# Altium schematic symbol library HW_HOLLAND_NCDM_MONITOR_R1.SchLib: 617 symbols (part 7 of 7)
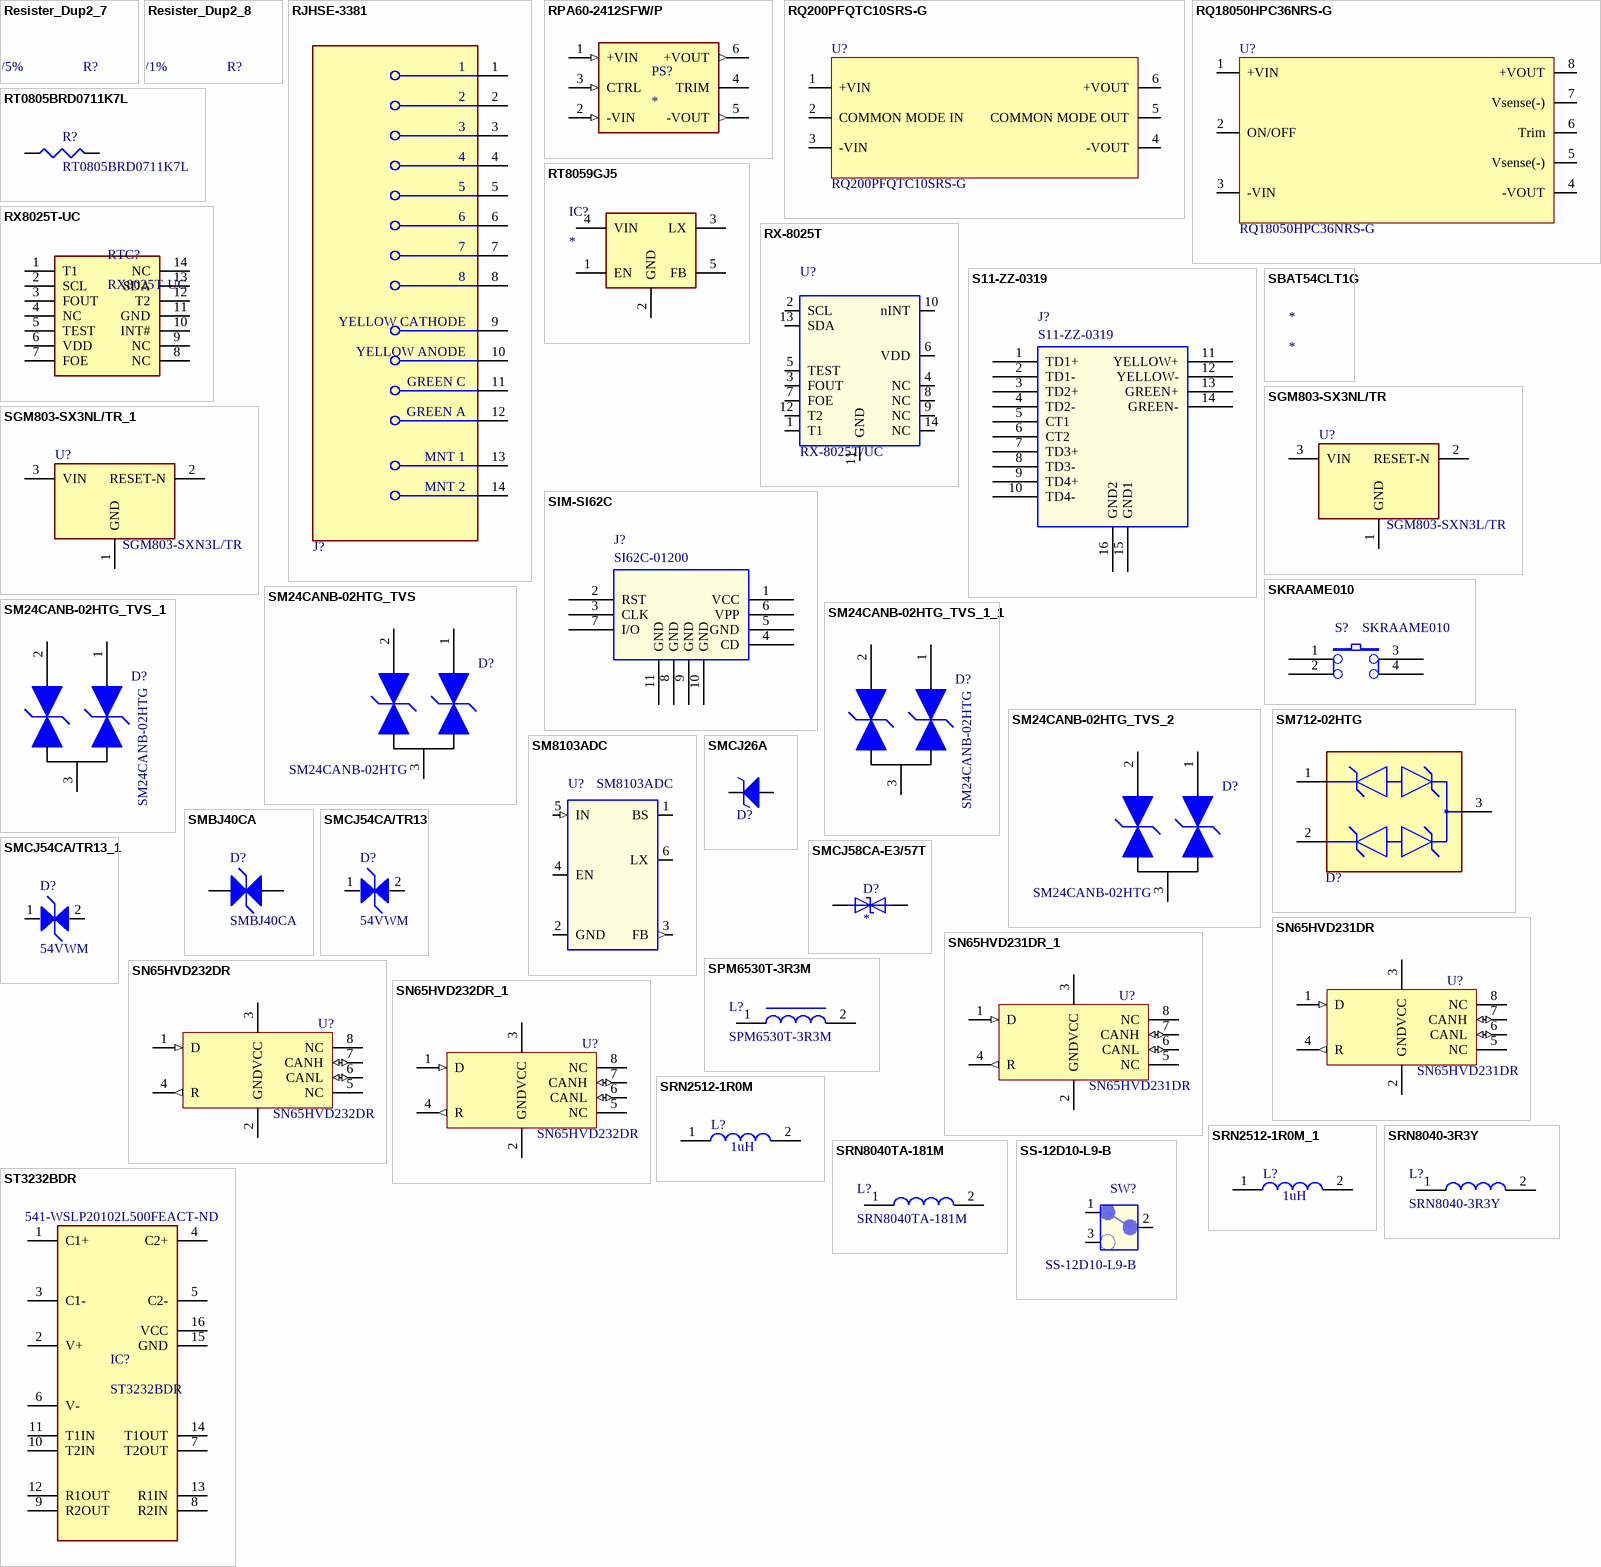
[diagram p25: symbols Resister_Dup2_7 to ST3232BDR]

## SMCJ58CA-E3/57T
designator D?
TransZorb 1500 W 58 V 93.6 Vcl Bi-Directional SMT TVS Diode - DO-214AB; Manufacturer: Vishay Semiconductors; Manufacturer Part Number: SMCJ58CA-E3/57T; Supplier 1: Digikey; RoHS: Yes; Category: TVS Diodes; Stock 1: 1611; Pricing 1: 1=0.64, 10=0.545, 100=0.3792 (USD); ComponentLink1URL: https://datasheet.ciiva.com/4247/smcj50a-4247736.pdf?src-supplier=Arrow+Electronics; ComponentLink1Description: https://datasheet.ciiva.com/4247/smcj50a-4247736.pdf?src-supplier=Arrow+Electronics; ComponentLink2URL: https://datasheet.ciiva.com/340/smcj50a-340997.pdf?src-supplier=Digikey; ComponentLink2Description: https://datasheet.ciiva.com/340/smcj50a-340997.pdf?src-supplier=Digikey; ComponentLink3URL: https://datasheet.ciiva.com/340/smcj50a-340998.pdf?src-supplier=Digikey; ComponentLink3Description: https://datasheet.ciiva.com/340/smcj50a-340998.pdf?src-supplier=Digikey; ComponentLink4URL: https://datasheet.ciiva.com/340/smcj50a-340999.pdf?src-supplier=Digikey; ComponentLink4Description: https://datasheet.ciiva.com/340/smcj50a-340999.pdf?src-supplier=Digikey; ComponentLink5URL: https://datasheet.ciiva.com/4508/smcj50a-241829-4508847.pdf?src-supplier=Mouser; ComponentLink5Description: https://datasheet.ciiva.com/4508/smcj50a-241829-4508847.pdf?src-supplier=Mouser; Supplier Part Number 1: SMCJ58CA-E3/57TGICT-ND
footprint DIOM7959X262N
pins: 1, 2

## SN65HVD231DR
designator U?, comment P/N: SN65HVD231DR  (hidden comment: IC TRANSCEIVER HALF 1/1 8SOIC)
1/1 Transceiver Half CANbus 8-SOIC; Order Code: DIGI : 296-26343-2-ND; Value: CAN; LCSC Manufacturer Part Number: SN65HVD231DR; LCSC Part Number: C129257
footprint SOIC8 (8-SOIC (0.154", 3.90mm Width))
pins: 1 D (in), 2 GND, 3 VCC, 4 R (out), 5 NC, 6 CANL (io), 7 CANH (io), 8 NC

## SN65HVD231DR_1
designator U?, comment P/N: SN65HVD231DR  (hidden comment: IC TRANSCEIVER HALF 1/1 8SOIC)
1/1 Transceiver Half CANbus 8-SOIC; Order Code: DIGI : 296-26343-2-ND; Value: CAN; LCSC Manufacturer Part Number: SN65HVD231DR; LCSC Part Number: C129257
footprint SOIC8 (8-SOIC (0.154", 3.90mm Width))
pins: 1 D (in), 2 GND, 3 VCC, 4 R (out), 5 NC, 6 CANL (io), 7 CANH (io), 8 NC

## SN65HVD232DR
designator U?
1Mbps Transceiver 3V~3.6V SOIC-8 CAN ICs ROHS; Manufacturer Part Number: SN65HVD232DR; LCSC Part Number: C30530
footprint SOIC8 (8-SOIC (0.154", 3.90mm Width))
pins: 1 D (in), 2 GND (power), 3 VCC (power), 4 R (out), 5 NC, 6 CANL (io), 7 CANH (io), 8 NC

## SN65HVD232DR_1
designator U?, comment SN65HVD232DR
1Mbps Transceiver 3V~3.6V SOIC-8 CAN ICs ROHS; Manufacturer Part Number: SN65HVD232DR; LCSC Part Number: C30530
footprint SOIC8 (8-SOIC (0.154", 3.90mm Width))
pins: 1 D (in), 2 GND (power), 3 VCC (power), 4 R (out), 5 NC, 6 CANL (io), 7 CANH (io), 8 NC

## SPM6530T-3R3M
designator L?
Inductor (FeSi Core); Manufacturer_Name: TDK; Datasheet Link: https://product.tdk.com/system/files/dam/doc/product/inductor/inductor/smd/catalog/inductor_commercial_power_spm6530_en.pdf; Manufacturer_Part_Number: SPM6530T-3R3M; Mouser Part Number: 810-SPM6530T-3R3M; Mouser Price/Stock: https://www.mouser.co.uk/ProductDetail/TDK/SPM6530T-3R3M?qs=chjFIDm9dbrWf%2F%2FLMCt7KA%3D%3D; Arrow Part Number: SPM6530T-3R3M; Arrow Price/Stock: https://www.arrow.com/en/products/spm6530t-3r3m/tdk?utm_currency=USD&region=nac
footprint SPM6530
pins: 1, 2

## SRN2512-1R0M
designator L?, comment value 1uH  (hidden comment: FIXED IND 1UH 3.5A 57 MOHM SMD)
1 µH Semi-Shielded Drum Core, Wirewound Inductor 3.5 A 57mOhm Max 1008 (2520 Metric); Manufacturer Part Number: SRN2512-1R0M; Order Code: Digi: SRN2512-1R0MTR-ND; LCSC Manufacturer Part Number: SRN2512-1R0M; LCSC Part Number: C2041561
footprint SRN25121R0M
pins: 1, 2

## SRN2512-1R0M_1
designator L?, comment value 1uH  (hidden comment: FIXED IND 1UH 3.5A 57 MOHM SMD)
1 µH Semi-Shielded Drum Core, Wirewound Inductor 3.5 A 57mOhm Max 1008 (2520 Metric); Manufacturer Part Number: SRN2512-1R0M; Order Code: Digi: SRN2512-1R0MTR-ND; LCSC Manufacturer Part Number: SRN2512-1R0M; LCSC Part Number: C2041561
footprint SRN25121R0M
pins: 1, 2

## SRN8040-3R3Y
designator L?
Inductor; Manufacturer_Name: Bourns; Datasheet Link: http://www.bourns.com/data/global/pdfs/SRN8040.pdf; Manufacturer_Part_Number: SRN8040-3R3Y; Mouser Part Number: 652-SRN8040-3R3Y; Mouser Price/Stock: https://www.mouser.co.uk/ProductDetail/Bourns/SRN8040-3R3Y?qs=opBjA1TV9010KZW9Pid7mg%3D%3D; Arrow Part Number: SRN8040-3R3Y; Arrow Price/Stock: https://www.arrow.com/en/products/srn8040-3r3y/bourns?region=nac
footprint SRN8040-3R3Y
pins: 1, 2

## SRN8040TA-181M
designator L?
FIXED IND 180UH 910MA 490MOHM SM; Manufacturer_Name: Bourns; Datasheet Link: http://www.bourns.com/docs/Product-Datasheets/SRN8040TA.pdf; Height: 4.5mm; Manufacturer_Part_Number: SRN8040TA-181M; Mouser Part Number: 652-SRN8040TA-181M; Mouser Price/Stock: https://www.mouser.co.uk/ProductDetail/Bourns/SRN8040TA-181M?qs=Vt59ZOdFuWYBehGVtqRu4w%3D%3D; Arrow Part Number: SRN8040TA-181M; Arrow Price/Stock: https://www.arrow.com/en/products/srn8040ta-181m/bourns?region=nac
footprint INDPM8080X450N
pins: 1, 2

## SS-12D10-L9-B
designator SW?
slide switch,5A current,vertical; Manufacturer: XKB; Myir P/N: 21203.00010; PCB Footprint: SW-SS-12D10-L9-B; Part Type: Switch; Manufacturer P/N: SS-12D10-L9-B; Reserve Value: SS-12D10-L9-B; Datasheet: SS-12D10-XX-X.pdf
footprint sk_12f14
footprint SW-SS-12D10-L9-B
pins: 1, 2, 3

## ST3232BDR
designator IC?  Supplier Part Number 2: 541-WSLP20102L500FEACT-ND
CURRENT SENSE, RESISTOR, WSLP2010.00251%EAe3 | Vishay Dale WSLP20102L500FEA; Manufacturer: STMicroelectronics; Supplier 1: Digikey; Manufacturer Part Number: ST3232BDR; RoHS: Yes; Category: Interface ICs; Stock 1: 10000; Pricing 1: 2500=0.84878, 5000=0.81734, 12500=0.78591 (USD); ComponentLink1URL: https://datasheet.ciiva.com/5825/1766333-5825810.pdf?src-supplier=Farnell; ComponentLink1Description: https://datasheet.ciiva.com/5825/1766333-5825810.pdf?src-supplier=Farnell; ComponentLink2URL: https://datasheet.ciiva.com/16391/st3232bdr-16391763.pdf?src-supplier=Future+Electronics; ComponentLink2Description: https://datasheet.ciiva.com/16391/st3232bdr-16391763.pdf?src-supplier=Future+Electronics; ComponentLink3URL: https://datasheet.ciiva.com/1701/cd00002253-1701454.pdf?src-supplier=Digikey; ComponentLink3Description: https://datasheet.ciiva.com/1701/cd00002253-1701454.pdf?src-supplier=Digikey; ComponentLink4URL: https://datasheet.ciiva.com/1701/cd00002253-1701455.pdf?src-supplier=Digikey; ComponentLink4Description: https://datasheet.ciiva.com/1701/cd00002253-1701455.pdf?src-supplier=Digikey; ComponentLink5URL: https://datasheet.ciiva.com/1701/cd00002253-1701456.pdf?src-supplier=Digikey; ComponentLink5Description: https://datasheet.ciiva.com/1701/cd00002253-1701456.pdf?src-supplier=Digikey; Supplier Part Number 1: 497-6533-2-ND; Supplier 2: Digikey; Stock 2: 33384; Pricing 2: 1=0.82, 10=0.65, 25=0.5872, 50=0.5284, 100=0.4364, 250=0.41096, 500=0.33268, 1000=0.26907 (USD); RoHS Compliant: Yes
footprint SOIC127P600X175-16N - duplicate
pins: 1 C1+, 2 V+, 3 C1-, 4 C2+, 5 C2-, 6 V-, 7 T2OUT, 8 R2IN, 9 R2OUT, 10 T2IN, 11 T1IN, 12 R1OUT, 13 R1IN, 14 T1OUT, 15 GND, 16 VCC

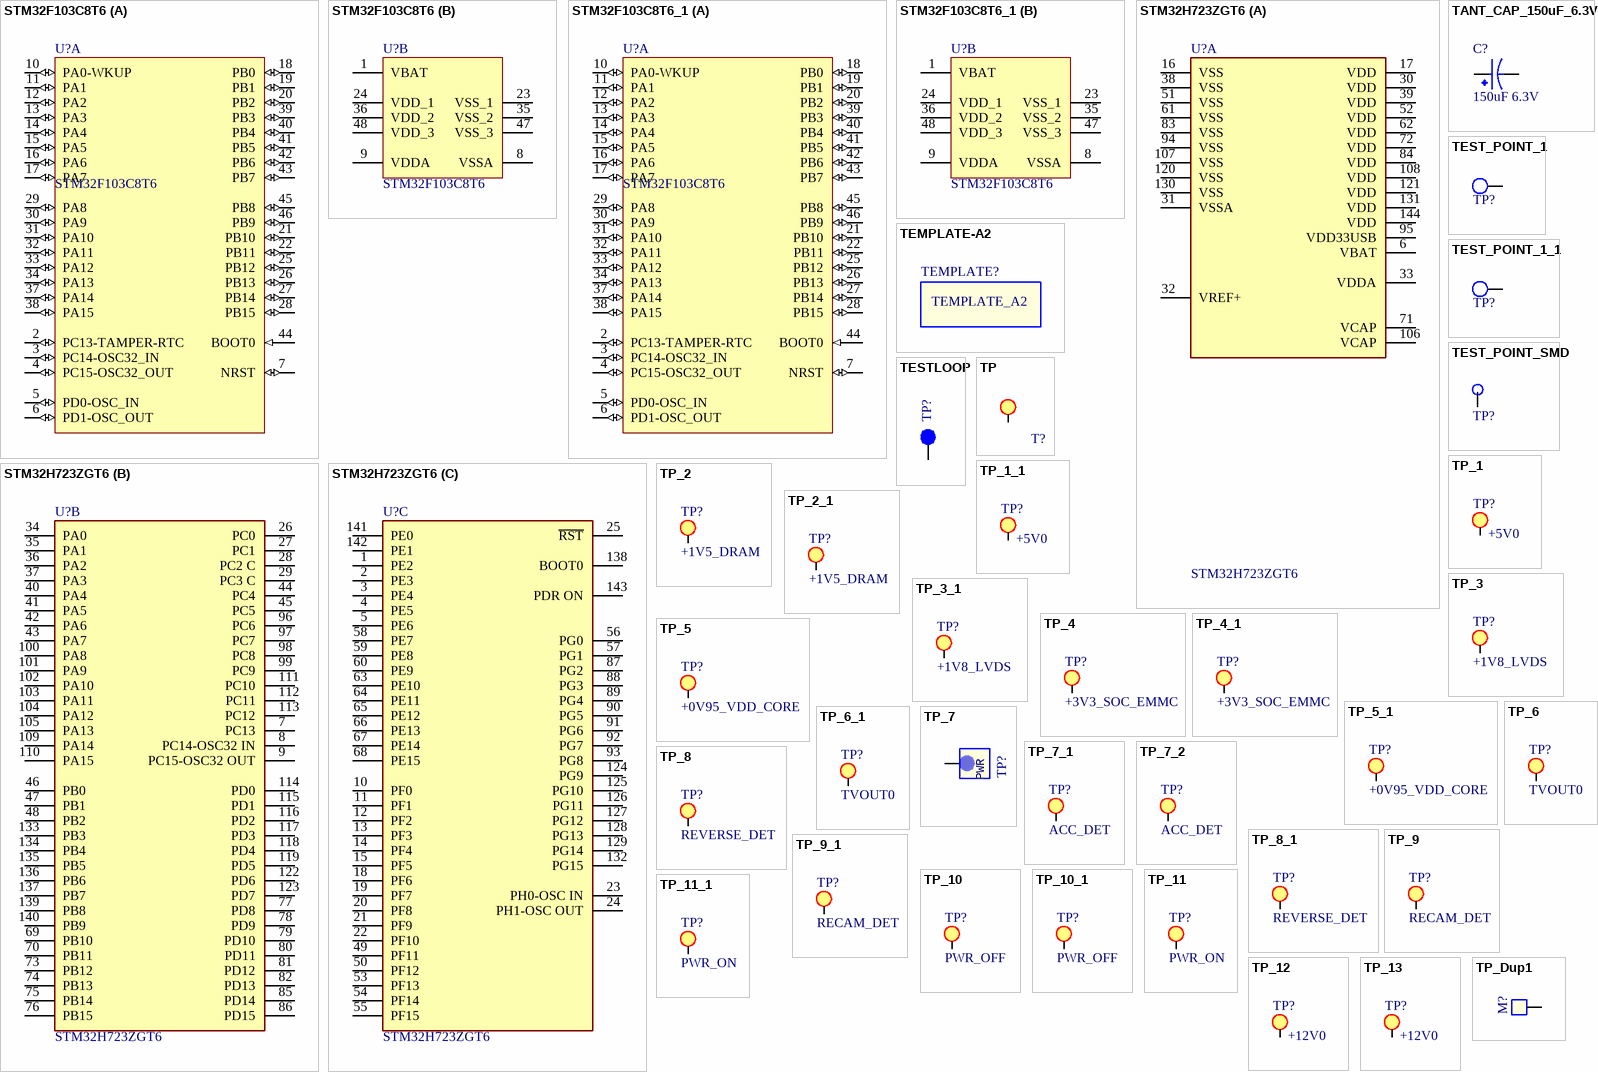
[diagram p17: symbols STM32F103C8T6 to TP_Dup1]

## STM32F103C8T6
designator U?
ARM Cortex-M3 32-bit MCU, 64 KB Flash, 20 KB Internal RAM, 37 I/Os, 48-pin LQFP, -40 to 85 degC, Tray; Operating Frequency(F) (Processor speed) (MHz): 72; Supply Voltage(Vcc) min (V): 2; FLASH Size (Prog) (kB): 64; Internal RAM Size (kB): 20; I/Os (High Current): 37; A/D Converter: 2x12-bit (10 Channel); Core: ARM Cortex-M3; ComponentLink2Description: Datasheet; ComponentLink3Description: Package Specification; Mounting Technology: Surface Mount; ComponentLink3URL: http://www.st.com/st-web-ui/static/active/en/resource/technical/document/datasheet/DM00058181.pdf; DatasheetVersion: Rev. 16; ComponentLink1URL: http://www.st.com/web/en/home.html; ComponentLink1Description: Manufacturer URL; Manufacturer Part Number: STM32F103C8T6; Packing: Tray; PackageVersion: Rev. 6, 06/2013; PackageReference: LQFP48; PackageDescription: 48-Pin Low Profile Quad Flat Package, 7 x 7 mm Body, 0.5 mm Pitch; ComponentLink2URL: http://www.st.com/st-web-ui/static/active/en/resource/technical/document/datasheet/CD00161566.pdf; LCSC Part Number: C8734; LCSC Manufacturer Part Number: STM32F103C8T6
footprint STM-LQFP48_M
footprint STM-LQFP48_L
footprint STM-LQFP48_N
part A pins: 2 PC13-TAMPER-RTC (io) "PC13-TAMPER-RTC/PC13/TAMPER-RTC", 3 PC14-OSC32_IN (io) "PC14-OSC32_IN/PC14/OSC32_IN", 4 PC15-OSC32_OUT (io) "PC15-OSC32_OUT/PC15/OSC32_OUT", 5 PD0-OSC_IN (io) "PD0/OSC_IN", 6 PD1-OSC_OUT (io) "PD1/OSC_OUT", 7 NRST (io), 10 PA0-WKUP (io) "PA0-WKUP/PA0/WKUP/USART2_CTS/ADC12_IN0/TIM2_CH1_ETR", 11 PA1 (io) "PA1/USART2_RTS/ADC12_IN1/TIM2_CH2", 12 PA2 (io) "PA2/USART2_TX/ADC12_IN2/TIM2_CH3", 13 PA3 (io) "PA3/USART2_RX/ADC12_IN3/TIM2_CH4", 14 PA4 (io) "PA4/SPI1_NSS/USART2_CK/ADC12_IN4", 15 PA5 (io) "PA5/SPI1_SCK/ADC12_IN5", 16 PA6 (io) "PA6/SPI1_MISO/ADC12_IN6/TIM3_CH1/TIM1_BKIN", 17 PA7 (io) "PA7/SPI1_MOSI/ADC12_IN7/TIM3_CH2/TIM1_CH1N", 18 PB0 (io) "PB0/ADC12_IN8/TIM3_CH3/TIM1_CH2N", 19 PB1 (io) "PB1/ADC12_IN9/TIM3_CH4/TIM1_CH3N", 20 PB2 (io) "PB2/BOOT1", 21 PB10 (io) "PB10/I2C2_SCL/USART3_TX/TIM2_CH3", 22 PB11 (io) "PB11/I2C2_SDA/USART3_RX/TIM2_CH4", 25 PB12 (io) "PB12/SPI2_NSS/I2C2_SMBAl/USART3_CK/TIM1_BKIN", 26 PB13 (io) "PB13/SPI2_SCK/USART3_CTS/TIM1_CH1N", 27 PB14 (io) "PB14/SPI2_MISO/USART3_RTS/TIM1_CH2N", 28 PB15 (io) "PB15/SPI2_MOSI/TIM1_CH3N", 29 PA8 (io) "PA8/USART1_CK/TIM1_CH1/MCO", 30 PA9 (io) "PA9/USART1_TX/TIM1_CH2", 31 PA10 (io) "PA10/USART1_RX/TIM1_CH3", 32 PA11 (io) "PA11/USART1_CTS/CANRX/USBDM/TIM1_CH4", 33 PA12 (io) "PA12/USART1_RTS/CANTX/USBDP/TIM1_ETR", 34 PA13 (io) "PA13/JTMS/SWDIO", 37 PA14 (io) "PA14/JTCK/SWCLK", 38 PA15 (io) "PA15/JTDI/TIM2_CH1_ETR/SPI1_NSS", 39 PB3 (io) "PB3/JTDO/TIM2_CH2/TRACESWO/SPI1_SCK", 40 PB4 (io) "PB4/NJTRST/TIM3_CH1/SPI1_MISO", 41 PB5 (io) "PB5/I2C1_SMBAI/TIM3_CH2/SPI1_MOSI", 42 PB6 (io) "PB6/I2C1_SCL/TIM4_CH1/USART1_TX", 43 PB7 (io) "PB7/I2C1_SDA/TIM4_CH2/USART1_RX", 44 BOOT0 (in), 45 PB8 (io) "PB8/TIM4_CH3/I2C1_SCL/CANRX", 46 PB9 (io) "PB9/TIM4_CH4/I2C1_SDA/CANTX"
part B pins: 1 VBAT (power), 8 VSSA, 9 VDDA (power), 23 VSS_1, 24 VDD_1 (power), 35 VSS_2, 36 VDD_2 (power), 47 VSS_3, 48 VDD_3 (power)

## STM32F103C8T6_1
designator U?, comment STM32F103C8T6
ARM Cortex-M3 32-bit MCU, 64 KB Flash, 20 KB Internal RAM, 37 I/Os, 48-pin LQFP, -40 to 85 degC, Tray; Operating Frequency(F) (Processor speed) (MHz): 72; Supply Voltage(Vcc) min (V): 2; FLASH Size (Prog) (kB): 64; Internal RAM Size (kB): 20; I/Os (High Current): 37; A/D Converter: 2x12-bit (10 Channel); Core: ARM Cortex-M3; ComponentLink2Description: Datasheet; ComponentLink3Description: Package Specification; Mounting Technology: Surface Mount; ComponentLink3URL: http://www.st.com/st-web-ui/static/active/en/resource/technical/document/datasheet/DM00058181.pdf; DatasheetVersion: Rev. 16; ComponentLink1URL: http://www.st.com/web/en/home.html; ComponentLink1Description: Manufacturer URL; Manufacturer Part Number: STM32F103C8T6; Packing: Tray; PackageVersion: Rev. 6, 06/2013; PackageReference: LQFP48; PackageDescription: 48-Pin Low Profile Quad Flat Package, 7 x 7 mm Body, 0.5 mm Pitch; ComponentLink2URL: http://www.st.com/st-web-ui/static/active/en/resource/technical/document/datasheet/CD00161566.pdf; LCSC Part Number: C8734; LCSC Manufacturer Part Number: STM32F103C8T6
footprint STM-LQFP48_M
footprint STM-LQFP48_L
footprint STM-LQFP48_N
part A pins: 2 PC13-TAMPER-RTC (io) "PC13-TAMPER-RTC/PC13/TAMPER-RTC", 3 PC14-OSC32_IN (io) "PC14-OSC32_IN/PC14/OSC32_IN", 4 PC15-OSC32_OUT (io) "PC15-OSC32_OUT/PC15/OSC32_OUT", 5 PD0-OSC_IN (io) "PD0/OSC_IN", 6 PD1-OSC_OUT (io) "PD1/OSC_OUT", 7 NRST (io), 10 PA0-WKUP (io) "PA0-WKUP/PA0/WKUP/USART2_CTS/ADC12_IN0/TIM2_CH1_ETR", 11 PA1 (io) "PA1/USART2_RTS/ADC12_IN1/TIM2_CH2", 12 PA2 (io) "PA2/USART2_TX/ADC12_IN2/TIM2_CH3", 13 PA3 (io) "PA3/USART2_RX/ADC12_IN3/TIM2_CH4", 14 PA4 (io) "PA4/SPI1_NSS/USART2_CK/ADC12_IN4", 15 PA5 (io) "PA5/SPI1_SCK/ADC12_IN5", 16 PA6 (io) "PA6/SPI1_MISO/ADC12_IN6/TIM3_CH1/TIM1_BKIN", 17 PA7 (io) "PA7/SPI1_MOSI/ADC12_IN7/TIM3_CH2/TIM1_CH1N", 18 PB0 (io) "PB0/ADC12_IN8/TIM3_CH3/TIM1_CH2N", 19 PB1 (io) "PB1/ADC12_IN9/TIM3_CH4/TIM1_CH3N", 20 PB2 (io) "PB2/BOOT1", 21 PB10 (io) "PB10/I2C2_SCL/USART3_TX/TIM2_CH3", 22 PB11 (io) "PB11/I2C2_SDA/USART3_RX/TIM2_CH4", 25 PB12 (io) "PB12/SPI2_NSS/I2C2_SMBAl/USART3_CK/TIM1_BKIN", 26 PB13 (io) "PB13/SPI2_SCK/USART3_CTS/TIM1_CH1N", 27 PB14 (io) "PB14/SPI2_MISO/USART3_RTS/TIM1_CH2N", 28 PB15 (io) "PB15/SPI2_MOSI/TIM1_CH3N", 29 PA8 (io) "PA8/USART1_CK/TIM1_CH1/MCO", 30 PA9 (io) "PA9/USART1_TX/TIM1_CH2", 31 PA10 (io) "PA10/USART1_RX/TIM1_CH3", 32 PA11 (io) "PA11/USART1_CTS/CANRX/USBDM/TIM1_CH4", 33 PA12 (io) "PA12/USART1_RTS/CANTX/USBDP/TIM1_ETR", 34 PA13 (io) "PA13/JTMS/SWDIO", 37 PA14 (io) "PA14/JTCK/SWCLK", 38 PA15 (io) "PA15/JTDI/TIM2_CH1_ETR/SPI1_NSS", 39 PB3 (io) "PB3/JTDO/TIM2_CH2/TRACESWO/SPI1_SCK", 40 PB4 (io) "PB4/NJTRST/TIM3_CH1/SPI1_MISO", 41 PB5 (io) "PB5/I2C1_SMBAI/TIM3_CH2/SPI1_MOSI", 42 PB6 (io) "PB6/I2C1_SCL/TIM4_CH1/USART1_TX", 43 PB7 (io) "PB7/I2C1_SDA/TIM4_CH2/USART1_RX", 44 BOOT0 (in), 45 PB8 (io) "PB8/TIM4_CH3/I2C1_SCL/CANRX", 46 PB9 (io) "PB9/TIM4_CH4/I2C1_SDA/CANTX"
part B pins: 1 VBAT (power), 8 VSSA, 9 VDDA (power), 23 VSS_1, 24 VDD_1 (power), 35 VSS_2, 36 VDD_2 (power), 47 VSS_3, 48 VDD_3 (power)

## STM32H723ZGT6
designator U?
ARM® Cortex®-M7 STM32H7 Microcontroller IC 32-Bit Single-Core 550MHz 1MB (1M x 8) FLASH 144-LQFP (20x20); Manufacturer Name: STMicroelectronics; Manufacturer Part Number: STM32H723ZGT6
footprint STMicroelectronics_LQFP144-1A_IPC_C
part A pins: 6 VBAT (power), 16 VSS (power), 17 VDD (power), 30 VDD (power), 31 VSSA (power), 32 VREF+ (power), 33 VDDA (power), 38 VSS (power), 39 VDD (power), 51 VSS (power), 52 VDD (power), 61 VSS (power), 62 VDD (power), 71 VCAP (power), 72 VDD (power), 83 VSS (power), 84 VDD (power), 94 VSS (power), 95 VDD33USB (power), 106 VCAP (power), 107 VSS (power), 108 VDD (power), 120 VSS (power), 121 VDD (power), 130 VSS (power), 131 VDD (power), 144 VDD (power)
part B pins: 7 PC13, 8 PC14-OSC32 IN, 9 PC15-OSC32 OUT, 26 PC0, 27 PC1, 28 PC2 C, 29 PC3 C, 34 PA0, 35 PA1, 36 PA2, 37 PA3, 40 PA4, 41 PA5, 42 PA6, 43 PA7, 44 PC4, 45 PC5, 46 PB0, 47 PB1, 48 PB2, 69 PB10, 70 PB11, 73 PB12, 74 PB13, 75 PB14, 76 PB15, 77 PD8, 78 PD9, 79 PD10, 80 PD11, 81 PD12, 82 PD13, 85 PD14, 86 PD15, 96 PC6, 97 PC7, 98 PC8, 99 PC9, 100 PA8, 101 PA9, 102 PA10, 103 PA11, 104 PA12, 105 PA13, 109 PA14, 110 PA15, 111 PC10, 112 PC11, 113 PC12, 114 PD0, 115 PD1, 116 PD2, 117 PD3, 118 PD4, 119 PD5, 122 PD6, 123 PD7, 133 PB3, 134 PB4, 135 PB5, 136 PB6, 137 PB7, 139 PB8, 140 PB9
part C pins: 1 PE2, 2 PE3, 3 PE4, 4 PE5, 5 PE6, 10 PF0, 11 PF1, 12 PF2, 13 PF3, 14 PF4, 15 PF5, 18 PF6, 19 PF7, 20 PF8, 21 PF9, 22 PF10, 23 PH0-OSC IN, 24 PH1-OSC OUT, 25 ~{RST}, 49 PF11, 50 PF12, 53 PF13, 54 PF14, 55 PF15, 56 PG0, 57 PG1, 58 PE7, 59 PE8, 60 PE9, 63 PE10, 64 PE11, 65 PE12, 66 PE13, 67 PE14, 68 PE15, 87 PG2, 88 PG3, 89 PG4, 90 PG5, 91 PG6, 92 PG7, 93 PG8, 124 PG9, 125 PG10, 126 PG11, 127 PG12, 128 PG13, 129 PG14, 132 PG15, 138 BOOT0, 141 PE0, 142 PE1, 143 PDR ON

## TANT_CAP_150uF_6.3V
designator C?, comment value 150uF 6.3V  (hidden comment: CAP TANT POLY 150UF 6.3V 1411)
150 µF Molded Tantalum Polymer Capacitor 6.3 V 1411 (3528 Metric) 70mOhm @ 100kHz; Manufacturer Part Number: 6TPG150M; Availability: Unavailable; Price: None; Package: None
footprint CAP_6TPG150M
pins: 1, 2

## TEMPLATE-A2
designator TEMPLATE?, comment TEMPLATE_A2
Manufacturer: MYIR; PCB Footprint: TEMPLATE-A2; Myir P/N: 21122.00032XN; Reserve Value: TEMPLATE_A2; Manufacturer P/N: TEMPLATE_A2; Part Type: Other
footprint TEMPLATE-A2
pins: 1

## TEST_POINT_1
designator TP?, comment TEST_POINT  (value not drawn)  (no BOM)
footprint TEST_POINT_TH
pins: 1

## TEST_POINT_1_1
designator TP?, comment TEST_POINT  (value not drawn)  (no BOM)
footprint TEST_POINT_TH
pins: 1

## TEST_POINT_SMD
designator TP?, comment Test Point  (value not drawn)
footprint TEST_POINT_SMD
pins: 1

## TESTLOOP
designator TP?, comment tpad_020  (value not drawn)
TEST POINT PAD 0.5MM DIA SMT, NO PART TO ORDER; CLASS: IO; CAD_APPROVED: Yes; AGILE_PN: 211-77484; HEIGHT: 0.1MM; ROHS: Yes; PCB Footprint: tpad_020
footprint tpad_020
pins: 1 Pin1

## TP
designator T?, comment SMD  (value not drawn)
DESIG: testing PAD; FAB: NA; VAL: NOT POPULATED; PCB Footprint: test0_8-smd; REF: NA
footprint TEST_POINT_SMD
pins: 1 TP

## TP_1
designator TP?, comment +5V0
footprint TEST_POINT
footprint TEST_POINT_TH
pins: 1 TP

## TP_1_1
designator TP?, comment +5V0
footprint TEST_POINT
footprint TEST_POINT_TH
pins: 1 TP

## TP_2
designator TP?, comment +1V5_DRAM
footprint TEST_POINT
footprint TEST_POINT_TH
pins: 1 TP

## TP_2_1
designator TP?, comment +1V5_DRAM
footprint TEST_POINT
footprint TEST_POINT_TH
pins: 1 TP

## TP_3
designator TP?, comment +1V8_LVDS
footprint TEST_POINT
footprint TEST_POINT_TH
pins: 1 TP

## TP_3_1
designator TP?, comment +1V8_LVDS
footprint TEST_POINT
footprint TEST_POINT_TH
pins: 1 TP

## TP_4
designator TP?, comment +3V3_SOC_EMMC
footprint TEST_POINT
footprint TEST_POINT_TH
pins: 1 TP

## TP_4_1
designator TP?, comment +3V3_SOC_EMMC
footprint TEST_POINT
footprint TEST_POINT_TH
pins: 1 TP

## TP_5
designator TP?, comment +0V95_VDD_CORE
footprint TEST_POINT
footprint TEST_POINT_TH
pins: 1 TP

## TP_5_1
designator TP?, comment +0V95_VDD_CORE
footprint TEST_POINT
footprint TEST_POINT_TH
pins: 1 TP

## TP_6
designator TP?, comment TVOUT0
footprint TEST_POINT
footprint TEST_POINT_TH
pins: 1 TP

## TP_6_1
designator TP?, comment TVOUT0
footprint TEST_POINT
footprint TEST_POINT_TH
pins: 1 TP

## TP_7
designator TP?, comment SMD  (value not drawn)
VAL: NOT POPULATED; REF: NA; DESIG: testing PAD; PCB Footprint: HOLE-TP0_9S16; FAB: NA
footprint HOLE-TP0_9S16
pins: 1 TP
text: PWR

## TP_7_1
designator TP?, comment ACC_DET
footprint TEST_POINT
footprint TEST_POINT_TH
pins: 1 TP

## TP_7_2
designator TP?, comment ACC_DET
footprint TEST_POINT
footprint TEST_POINT_TH
pins: 1 TP

## TP_8
designator TP?, comment REVERSE_DET
footprint TEST_POINT
footprint TEST_POINT_TH
pins: 1 TP

## TP_8_1
designator TP?, comment REVERSE_DET
footprint TEST_POINT
footprint TEST_POINT_TH
pins: 1 TP

## TP_9
designator TP?, comment RECAM_DET
footprint TEST_POINT
footprint TEST_POINT_TH
pins: 1 TP

## TP_9_1
designator TP?, comment RECAM_DET
footprint TEST_POINT
footprint TEST_POINT_TH
pins: 1 TP

## TP_10
designator TP?, comment PWR_OFF
footprint TEST_POINT
footprint TEST_POINT_TH
pins: 1 TP

## TP_10_1
designator TP?, comment PWR_OFF
footprint TEST_POINT
footprint TEST_POINT_TH
pins: 1 TP

## TP_11
designator TP?, comment PWR_ON
footprint TEST_POINT
footprint TEST_POINT_TH
pins: 1 TP

## TP_11_1
designator TP?, comment PWR_ON
footprint TEST_POINT
footprint TEST_POINT_TH
pins: 1 TP

## TP_12
designator TP?, comment +12V0
footprint TEST_POINT
footprint TEST_POINT_TH
pins: 1 TP

## TP_13
designator TP?, comment +12V0
footprint TEST_POINT
footprint TEST_POINT_TH
pins: 1 TP

## TP_Dup1
designator M?, comment Mark Piont  (value not drawn)
PCB Footprint: id-board; VAL: NOT POPULATED; REF: NA; DESIG: testing PAD; FAB: NA
footprint TP
footprint id-board
pins: 1

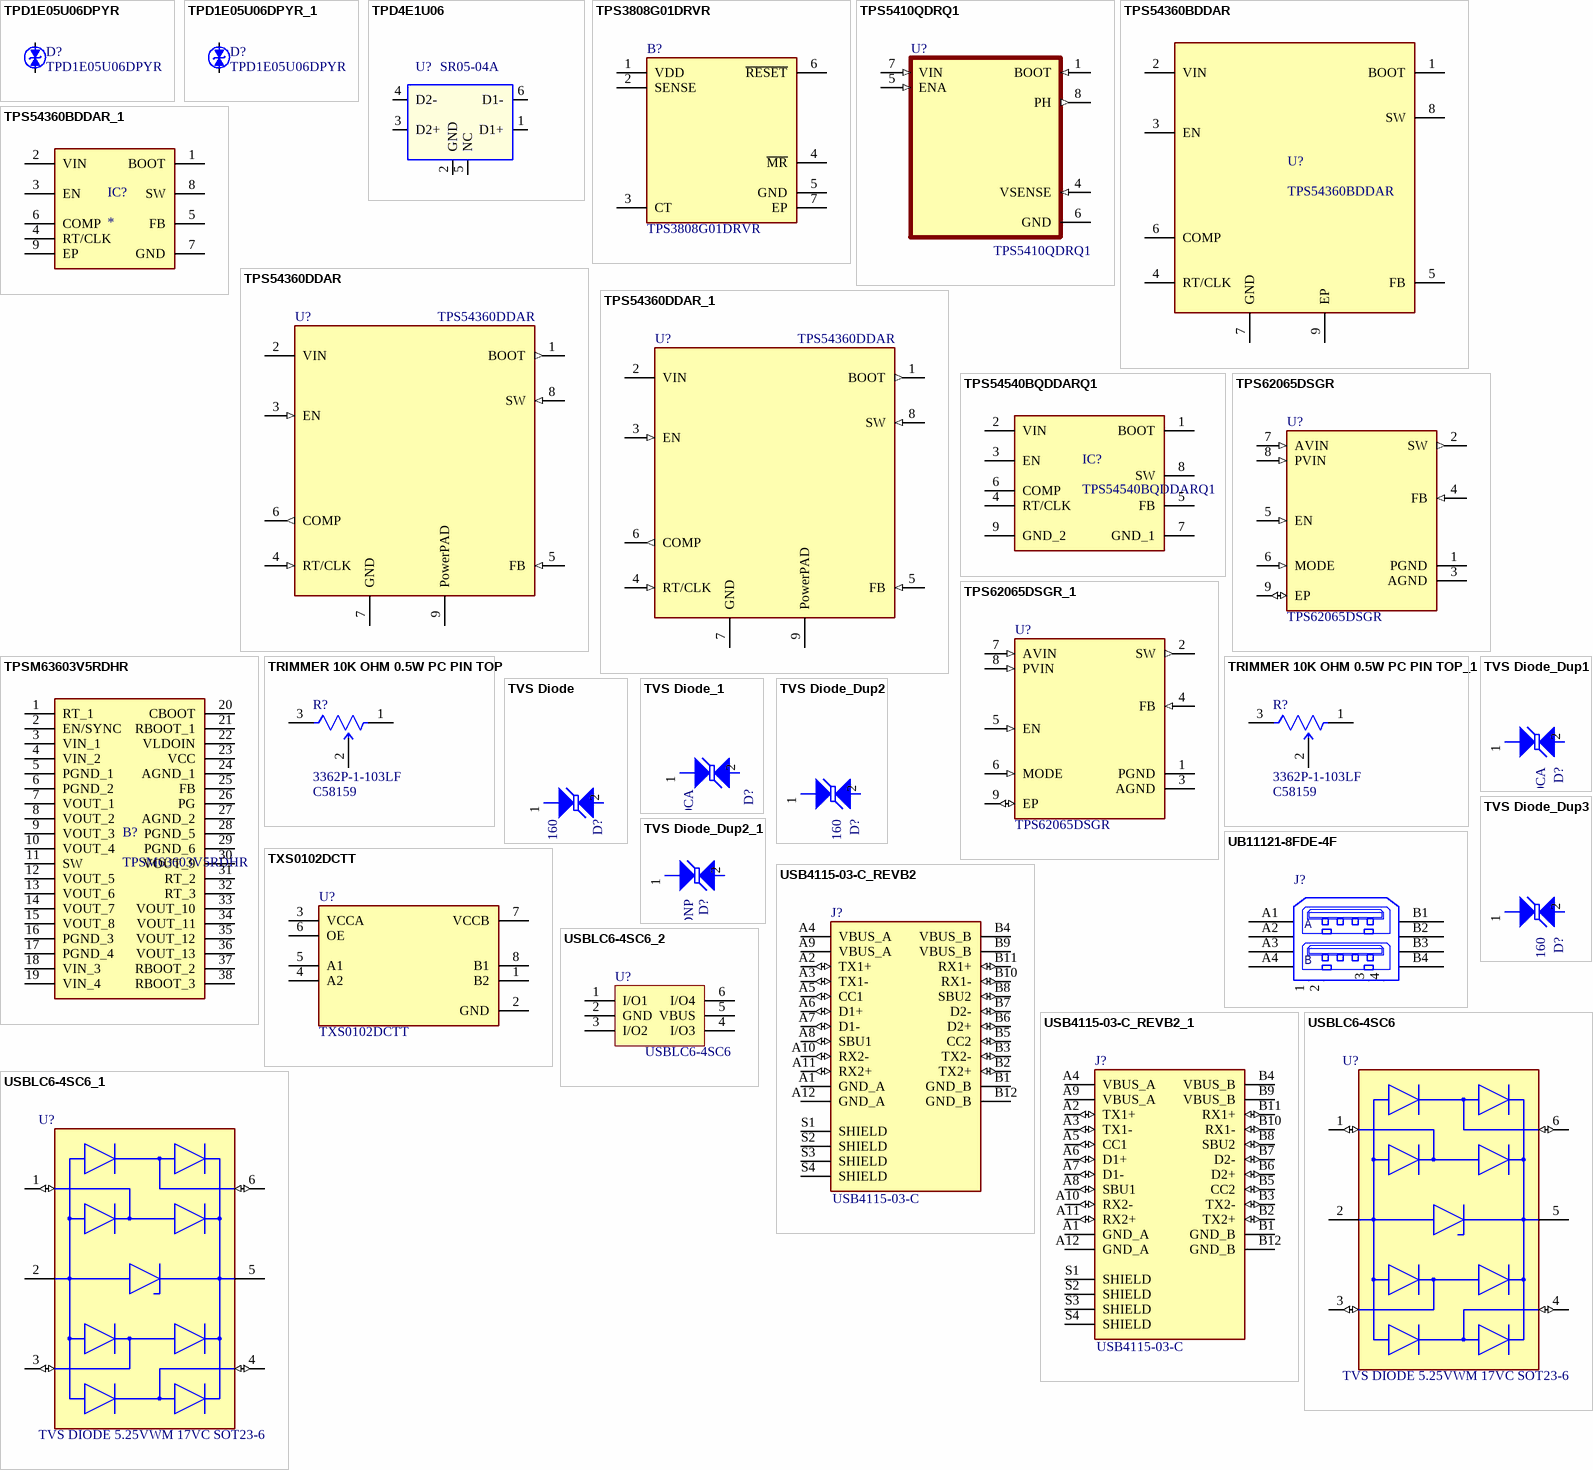
[diagram p18: symbols TPD1E05U06DPYR to USBLC6-4SC6_2]

## TPD1E05U06DPYR
designator D?, comment Manufacturer Part Number: TPD1E05U06DPYR  (hidden comment: TVS DIODE 5.5VWM 14VC 2X1SON)
14V Clamp 2.5A (8/20µs) Ipp Tvs Diode Surface Mount 2-X1SON (1x.60); Order Code: Digi: 296-39341-2-ND; LCSC Manufacturer Part Number: TPD1E05U06DPYR; LCSC Part Number: C436349
footprint D 0402(1005)
pins: 1 G "gate", 2 S "source"

## TPD1E05U06DPYR_1
designator D?, comment Manufacturer Part Number: TPD1E05U06DPYR  (hidden comment: TVS DIODE 5.5VWM 14VC 2X1SON)
14V Clamp 2.5A (8/20µs) Ipp Tvs Diode Surface Mount 2-X1SON (1x.60); Order Code: Digi: 296-39341-2-ND; LCSC Manufacturer Part Number: TPD1E05U06DPYR; LCSC Part Number: C436349
footprint D 0402(1005)
pins: 1 G "gate", 2 S "source"

## TPD4E1U06
designator U?, comment SR05-04A
IC,Quad-Channel,High-Speed ESD Protection Device,SMD,SOT23-6,UN; RP1 Manufacturer P/N: TPD4E1U06DBVR; RP1 Myir P/N: 20114.00004; Myir P/N: 20114.00013; Datasheet: SR05-04A.pdf; Reserve Value: SR05-04A; Manufacturer P/N: SR05-04A; Manufacturer: UN; Part Type: Protection; PCB Footprint: SOT23-6
footprint SOT23-6
pins: 1 D1+, 2 GND, 3 D2+, 4 D2-, 5 NC, 6 D1-

## TPS3808G01DRVR
designator B?
Low-quiescent current supervisor with programmable-delay and manual reset; Manufacturer_Name: Texas Instruments; Geometry.Height: 0.8mm; Manufacturer Part Number: TPS3808G01DRVR; Mouser Part Number: 595-TPS3808G01DRVR; Mouser Price/Stock: https://www.mouser.co.uk/ProductDetail/Texas-Instruments/TPS3808G01DRVR?qs=nRD1PKnFC2FrHLBhWUTt4Q%3D%3D; Arrow Part Number: TPS3808G01DRVR; Arrow Price/Stock: https://www.arrow.com/en/products/tps3808g01drvr/texas-instruments?region=nac; Datasheet Link: http://www.ti.com/lit/gpn/tps3808
footprint SON65P200X200X80-7N
pins: 1 VDD, 2 SENSE, 3 CT, 4 ~{MR}, 5 GND, 6 ~{RESET}, 7 EP

## TPS5410QDRQ1
designator U?, comment Manufacturer Part Number: TPS5410QDRQ1  (hidden comment: IC REG BUCK ADJUSTABLE 1A 8SOIC)
Automotive 5.5V to 36V, 500kHz Fixed Frequency 1A Buck Converter 8-SOIC -40 to 125; MF: Texas Instruments; Value: *; Arrow_Electronics-Purchase-URL: https://snapeda.com/shop?store=Arrow+Electronics&id=1232664; Price: None; Availability: Good; Mouser-Purchase-URL: https://snapeda.com/shop?store=Mouser&id=1232664; Texas_Instruments-Purchase-URL: https://snapeda.com/shop?store=Texas+Instruments&id=1232664; SnapEDA_Link: https://www.snapeda.com/parts/TPS5410QDRQ1/Texas%20Instruments/view-part/1232664/?ref=snap; Package: SOIC-8 Texas Instruments
footprint SOIC127P599X175-8N
pins: 1 BOOT (in), 4 VSENSE (in), 5 ENA (in), 6 GND (power), 7 VIN (in), 8 PH (out)

## TPS54360BDDAR
designator U?
60-V input, 3.5-A, step-down DC/DC converter with Eco-Mode™ 8-SO PowerPAD -40 to 150; Manufacturer: Texas Instruments; Supplier 1: Digikey; Manufacturer Part Number: TPS54360BDDAR; RoHS: Yes; Category: Voltage Regulators - Switching; Stock 1: 2500; Pricing 1: 2500=2.34003 (USD); ComponentLink1URL: http://www.ti.com/general/docs/suppproductinfo.tsp?distId=10&amp;gotoUrl=http%3A%2F%2Fwww.ti.com%2Flit%2Fgpn%2Ftps54360b&src-supplier=Digikey; ComponentLink1Description: http://www.ti.com/general/docs/suppproductinfo.tsp?distId=10&amp;gotoUrl=http%3A%2F%2Fwww.ti.com%2Flit%2Fgpn%2Ftps54360b&src-supplier=Digikey; Supplier Part Number 1: 296-TPS54360BDDARTR-ND
footprint SOIC127P600X170-9N
pins: 1 BOOT, 2 VIN, 3 EN, 4 RT/CLK, 5 FB, 6 COMP, 7 GND, 8 SW, 9 EP

## TPS54360BDDAR_1
designator IC?
Integrated Circuit; Manufacturer_Name: Texas Instruments; Manufacturer_Part_Number: TPS54360BDDAR; Datasheet Link: http://www.ti.com/lit/gpn/TPS54360B; Height: 1.7mm; Mouser Part Number: 595-TPS54360BDDAR; Mouser Price/Stock: https://www.mouser.co.uk/ProductDetail/Texas-Instruments/TPS54360BDDAR?qs=l7cgNqFNU1iKlQpZ394odQ%3D%3D; Arrow Part Number: TPS54360BDDAR; Arrow Price/Stock: https://www.arrow.com/en/products/tps54360bddar/texas-instruments?region=nac
footprint SOIC127P600X170-9N
pins: 1 BOOT, 2 VIN, 3 EN, 4 RT/CLK, 5 FB, 6 COMP, 7 GND, 8 SW, 9 EP

## TPS54360DDAR
designator U?
Buck, Split Rail Switching Regulator IC Positive Adjustable 0.8V 1 Output 3.5A 8-PowerSOIC (0.154", 3.90mm Width); Order Code: Digi: 296-37676-2-ND; LCSC Manufacturer Part Number: TPS54360DDAR; LCSC Part Number: C44377; Manufacturer Part Number: TPS54360DDAR
footprint S8E_LT
pins: 1 BOOT (out), 2 VIN (power), 3 EN (in), 4 RT/CLK (in), 5 FB (in), 6 COMP (out), 7 GND (power), 8 SW (in), 9 PowerPAD (power)

## TPS54360DDAR_1
designator U?, comment TPS54360DDAR
Buck, Split Rail Switching Regulator IC Positive Adjustable 0.8V 1 Output 3.5A 8-PowerSOIC (0.154", 3.90mm Width); Order Code: Digi: 296-37676-2-ND; LCSC Manufacturer Part Number: TPS54360DDAR; LCSC Part Number: C44377; Manufacturer Part Number: TPS54360DDAR
footprint S8E_LT
pins: 1 BOOT (out), 2 VIN (power), 3 EN (in), 4 RT/CLK (in), 5 FB (in), 6 COMP (out), 7 GND (power), 8 SW (in), 9 PowerPAD (power)

## TPS54540BQDDARQ1
designator IC?
Integrated Circuit; Manufacturer_Name: Texas Instruments; Datasheet Link: http://www.ti.com/lit/gpn/tps54540b-q1; Height: 1.7mm; Manufacturer_Part_Number: TPS54540BQDDARQ1; Mouser Part Number: 595-TPS54540BQDDARQ1; Mouser Price/Stock: https://www.mouser.co.uk/ProductDetail/Texas-Instruments/TPS54540BQDDARQ1?qs=Mv7BduZupUh5p%252BrvdCEqBg%3D%3D; Arrow Part Number: TPS54540BQDDARQ1; Arrow Price/Stock: https://www.arrow.com/en/products/tps54540bqddarq1/texas-instruments?utm_currency=USD&region=nac
footprint SOIC127P600X170-9N
pins: 1 BOOT, 2 VIN, 3 EN, 4 RT/CLK, 5 FB, 6 COMP, 7 GND_1, 8 SW, 9 GND_2

## TPS62065DSGR
designator U?, comment Manufacturer Part Number: TPS62065DSGR  (hidden comment: IC REG BUCK ADJUSTABLE 2A 8WSON)
Buck Switching Regulator IC Positive Adjustable 0.8V 1 Output 2A 8-WFDFN Exposed Pad; Order Code: Digi: 296-39441-2-ND; LCSC Manufacturer Part Number: TPS62065DSGR; LCSC Part Number: C398352
footprint SON50P200X200X80-9N
pins: 1 PGND (power), 2 SW (out), 3 AGND (power), 4 FB (in), 5 EN (in), 6 MODE (in), 7 AVIN (in), 8 PVIN (in), 9 EP (io)

## TPS62065DSGR_1
designator U?, comment Manufacturer Part Number: TPS62065DSGR  (hidden comment: IC REG BUCK ADJUSTABLE 2A 8WSON)
Buck Switching Regulator IC Positive Adjustable 0.8V 1 Output 2A 8-WFDFN Exposed Pad; Order Code: Digi: 296-39441-2-ND; LCSC Manufacturer Part Number: TPS62065DSGR; LCSC Part Number: C398352
footprint SON50P200X200X80-9N
pins: 1 PGND (power), 2 SW (out), 3 AGND (power), 4 FB (in), 5 EN (in), 6 MODE (in), 7 AVIN (in), 8 PVIN (in), 9 EP (io)

## TPSM63603V5RDHR
designator B?
High-density, 3-V to 36-V input, 1-V to 16-V output, 3-A power module 30-B0QFN -40 to 125; Manufacturer: Texas Instruments; Supplier 1: Digikey; Manufacturer Part Number: TPSM63603V5RDHR; RoHS: No; Category: Integrated Circuits (ICs); Stock 1: 2582; Pricing 1: 1=8.77, 10=7.926, 25=7.5572, 100=6.562, 250=6.26704, 500=5.71408, 1000=4.97678 (USD); Supplier Part Number 1: 296-TPSM63603V5RDHRDKR-ND
footprint TPSM63603V5RDHR
pins: 1 RT_1, 2 EN/SYNC, 3 VIN_1, 4 VIN_2, 5 PGND_1, 6 PGND_2, 7 VOUT_1, 8 VOUT_2, 9 VOUT_3, 10 VOUT_4, 11 SW, 12 VOUT_5, 13 VOUT_6, 14 VOUT_7, 15 VOUT_8, 16 PGND_3, 17 PGND_4, 18 VIN_3, 19 VIN_4, 20 CBOOT, 21 RBOOT_1, 22 VLDOIN, 23 VCC, 24 AGND_1, 25 FB, 26 PG, 27 AGND_2, 28 PGND_5, 29 PGND_6, 30 VOUT_9, 31 RT_2, 32 RT_3, 33 VOUT_10, 34 VOUT_11, 35 VOUT_12, 36 VOUT_13, 37 RBOOT_2, 38 RBOOT_3

## TRIMMER 10K OHM 0.5W PC PIN TOP
designator R?  Manufacturer Part Number: 3362P-1-103LF  LCSC Part Number: C58159  (hidden comment: TRIMMER 10K OHM 0.5W PC PIN TOP)
10 kOhms 0.5W, 1/2W PC Pins Through Hole Trimmer Potentiometer Cermet 1.0 Turn Top Adjustment
footprint Bourns_3386P_MFG
pins: 1 CCW, 2 WIPER, 3 CW

## TRIMMER 10K OHM 0.5W PC PIN TOP_1
designator R?, comment Manufacturer Part Number: 3362P-1-103LF  LCSC Part Number: C58159  (hidden comment: TRIMMER 10K OHM 0.5W PC PIN TOP)
10 kOhms 0.5W, 1/2W PC Pins Through Hole Trimmer Potentiometer Cermet 1.0 Turn Top Adjustment
footprint Bourns_3386P_MFG
pins: 1 CCW, 2 WIPER, 3 CW

## TVS Diode
designator D?, comment B72590D50H160
Diode,TVS,5.6VDC,SMD,D0402,TDK; Myir P/N: 20701.00001; Part Type: Diode; Manufacturer: TDK; Manufacturer P/N: B72590D50H160; Reserve Value: B72590D50H160; Datasheet: B72590D0050H160.pdf; PCB Footprint: D0402
footprint L16214
footprint D0402
pins: 1, 2

## TVS Diode_1
designator D?, comment SMBJ6.0CA
Diode, TVS Bi-Dir 6V 600W, DO-214AA(SMB); Manufacturer: UN; Myir P/N: 20701.00028; PCB Footprint: DO-214AA; Part Type: Diode; Manufacturer P/N: SMBJ6.0CA; Reserve Value: SMBJ6.0CA; Datasheet: SMBJ6.0C.pdf
footprint L16214
footprint DO-214AA
pins: 1, 2

## TVS Diode_Dup1
designator D?, comment SMBJ6.0CA
Diode, TVS Bi-Dir 6V 600W, DO-214AA(SMB); Manufacturer: UN; Myir P/N: 20701.00028; Datasheet: SMBJ6.0C.pdf; Reserve Value: SMBJ6.0CA; Manufacturer P/N: SMBJ6.0CA; Part Type: Diode; PCB Footprint: do-214aa
footprint L16214
footprint do-214aa
pins: 1, 2

## TVS Diode_Dup2
designator D?, comment B72590D50H160
Diode,TVS,5.6VDC,SMD,D0402,TDK; Myir P/N: 20701.00001; Datasheet: B72590D0050H160.pdf; Reserve Value: B72590D50H160; Manufacturer P/N: B72590D50H160; Manufacturer: TDK; Part Type: Diode; PCB Footprint: D0402
footprint L16214
footprint D0402
pins: 1, 2

## TVS Diode_Dup2_1
designator D?, comment DNP
Diode,TVS,5.6VDC,SMD,D0402,TDK; Manufacturer P/N: B72590D50H160; Myir P/N: 20701.00001; Part Type: Diode; Manufacturer: TDK; Reserve Value: B72590D50H160; Datasheet: B72590D0050H160.pdf; PCB Footprint: D0402
footprint L16214
footprint D0402
pins: 1, 2

## TVS Diode_Dup3
designator D?, comment B72590D50H160
Diode,TVS,5.6VDC,SMD,D0402,TDK; Myir P/N: 20701.00001; PCB Footprint: D0402; Part Type: Diode; Manufacturer: TDK; Manufacturer P/N: B72590D50H160; Reserve Value: B72590D50H160; Datasheet: B72590D0050H160.pdf
footprint L16214
footprint D0402
pins: 1, 2

## TXS0102DCTT
designator U?
2-Bit Bidirectional Voltage-Level Shifter for Open-Drain and Push-Pull Application; Manufacturer_Name: Texas Instruments; Geometry.Height: 1.3mm; Manufacturer Part Number: TXS0102DCTT; Mouser Part Number: 595-TXS0102DCTT; Mouser Price/Stock: https://www.mouser.co.uk/ProductDetail/Texas-Instruments/TXS0102DCTT?qs=BWabSxB1G9dXmadXua3JhQ%3D%3D; Arrow Part Number: TXS0102DCTT; Arrow Price/Stock: https://www.arrow.com/en/products/txs0102dctt/texas-instruments?region=nac; Datasheet Link: https://www.ti.com/lit/gpn/TXS0102
footprint SOP65P400X130-8N
pins: 1 B2, 2 GND, 3 VCCA, 4 A2, 5 A1, 6 OE, 7 VCCB, 8 B1

## UB11121-8FDE-4F
designator J?  (value not drawn)
Connector,Double-USB A,Female,Right angle,4Pos,4.13mm,1u¡±MIN Gold Plate,-55~85¡æ,Foxconn; Myir P/N: 21121.00004; Datasheet: DUSB_A_Foxconn_UB11121-8FDE-4F.pdf; Reserve Value: UB11121-8FDE-4F; Manufacturer P/N: UB11121-8FDE-4F; Manufacturer: Foxconn; Part Type: USB Connector; PCB Footprint: UB11121-8FDE-4F
footprint CON_USBDUAL72309
footprint UB11121-8FDE-4F
pins: 1 BODY1, 2 BODY2, 3 BODY3, 4 BODY4, A1 VCC (power), A2 USBHMA, A3 USBHPA, A4 GND (power), B1 VCC (power), B2 USBHMB, B3 USBHPB, B4 GND (power)
text: A; B

## USB4115-03-C_REVB2
designator J?, comment Manufacturer Part Number: USB4115-03-C  (hidden comment: CONN USB3.1 TYPE-C VERT SOCKET)
USB-C (USB TYPE-C) USB 3.2 Gen 2 (USB 3.1 Gen 2, Superspeed + (USB 3.1)) Receptacle Connector 24 Position Surface Mount, Through Hole; Order Code: Digi: 2073-USB4115-03-CTR-ND
footprint GCT_USB4115-03-C_REVB2
pins: A1 GND_A (power), A2 TX1+ (io), A3 TX1- (io), A4 VBUS_A (power), A5 CC1 (io), A6 D1+ (io), A7 D1- (io), A8 SBU1 (io), A9 VBUS_A (power), A10 RX2- (io), A11 RX2+ (io), A12 GND_A (power), B1 GND_B (power), B2 TX2+ (io), B3 TX2- (io), B4 VBUS_B (power), B5 CC2 (io), B6 D2+ (io), B7 D2- (io), B8 SBU2 (io), B9 VBUS_B (power), B10 RX1- (io), B11 RX1+ (io), B12 GND_B (power), S1 SHIELD, S2 SHIELD, S3 SHIELD, S4 SHIELD

## USB4115-03-C_REVB2_1
designator J?, comment Manufacturer Part Number: USB4115-03-C  (hidden comment: CONN USB3.1 TYPE-C VERT SOCKET)
USB-C (USB TYPE-C) USB 3.2 Gen 2 (USB 3.1 Gen 2, Superspeed + (USB 3.1)) Receptacle Connector 24 Position Surface Mount, Through Hole; Order Code: Digi: 2073-USB4115-03-CTR-ND
footprint GCT_USB4115-03-C_REVB2
pins: A1 GND_A (power), A2 TX1+ (io), A3 TX1- (io), A4 VBUS_A (power), A5 CC1 (io), A6 D1+ (io), A7 D1- (io), A8 SBU1 (io), A9 VBUS_A (power), A10 RX2- (io), A11 RX2+ (io), A12 GND_A (power), B1 GND_B (power), B2 TX2+ (io), B3 TX2- (io), B4 VBUS_B (power), B5 CC2 (io), B6 D2+ (io), B7 D2- (io), B8 SBU2 (io), B9 VBUS_B (power), B10 RX1- (io), B11 RX1+ (io), B12 GND_B (power), S1 SHIELD, S2 SHIELD, S3 SHIELD, S4 SHIELD

## USBLC6-4SC6
designator U?, comment TVS DIODE 5.25VWM 17VC SOT23-6
17V Clamp 5A (8/20µs) Ipp Tvs Diode Surface Mount SOT-23-6; Manufacturer Part Number: USBLC6-4SC6; Order Code: Digi: 497-4492-2-ND; LCSC Manufacturer Part NUmber: USBLC6-4SC6; LCSC Part Number: C111212
footprint SOT95P280X145-6N
pins: 1 I/O1 (io), 2 GND, 3 I/O2 (io), 4 I/O3 (io), 5 VP (power), 6 I/O4 (io)

## USBLC6-4SC6_1
designator U?, comment TVS DIODE 5.25VWM 17VC SOT23-6
17V Clamp 5A (8/20µs) Ipp Tvs Diode Surface Mount SOT-23-6; Manufacturer Part Number: USBLC6-4SC6; Order Code: Digi: 497-4492-2-ND; LCSC Manufacturer Part NUmber: USBLC6-4SC6; LCSC Part Number: C111212
footprint SOT95P280X145-6N
pins: 1 I/O1 (io), 2 GND, 3 I/O2 (io), 4 I/O3 (io), 5 VP (power), 6 I/O4 (io)

## USBLC6-4SC6_2
designator U?, comment USBLC6-4SC6
Very low capacitance ESD protection , 4 lines; Internal_Part_Number: MCD-00250; Part_Type: IC; Manufacturer: STMICROELECTRONICS; BMS_Part_Number: 9151001; Provided_By: SUBCO with ST control; ECCN_US: EAR99; ECCN_EU: NEC; Status: Released; Manufacturer Part Number: USBLC6-4SC6; ComponentLink1Description: Datasheet; ComponentLink1URL: http://tunmcdsvn.tun.st.com/Component_Datasheet_Library/Trunk/Diodes/STM_ESD_USBLC6-4SC6; Value: USBLC6-4SC6
footprint SOT23-6L
pins: 1 I/O1, 2 GND, 3 I/O2, 4 I/O3, 5 VBUS, 6 I/O4

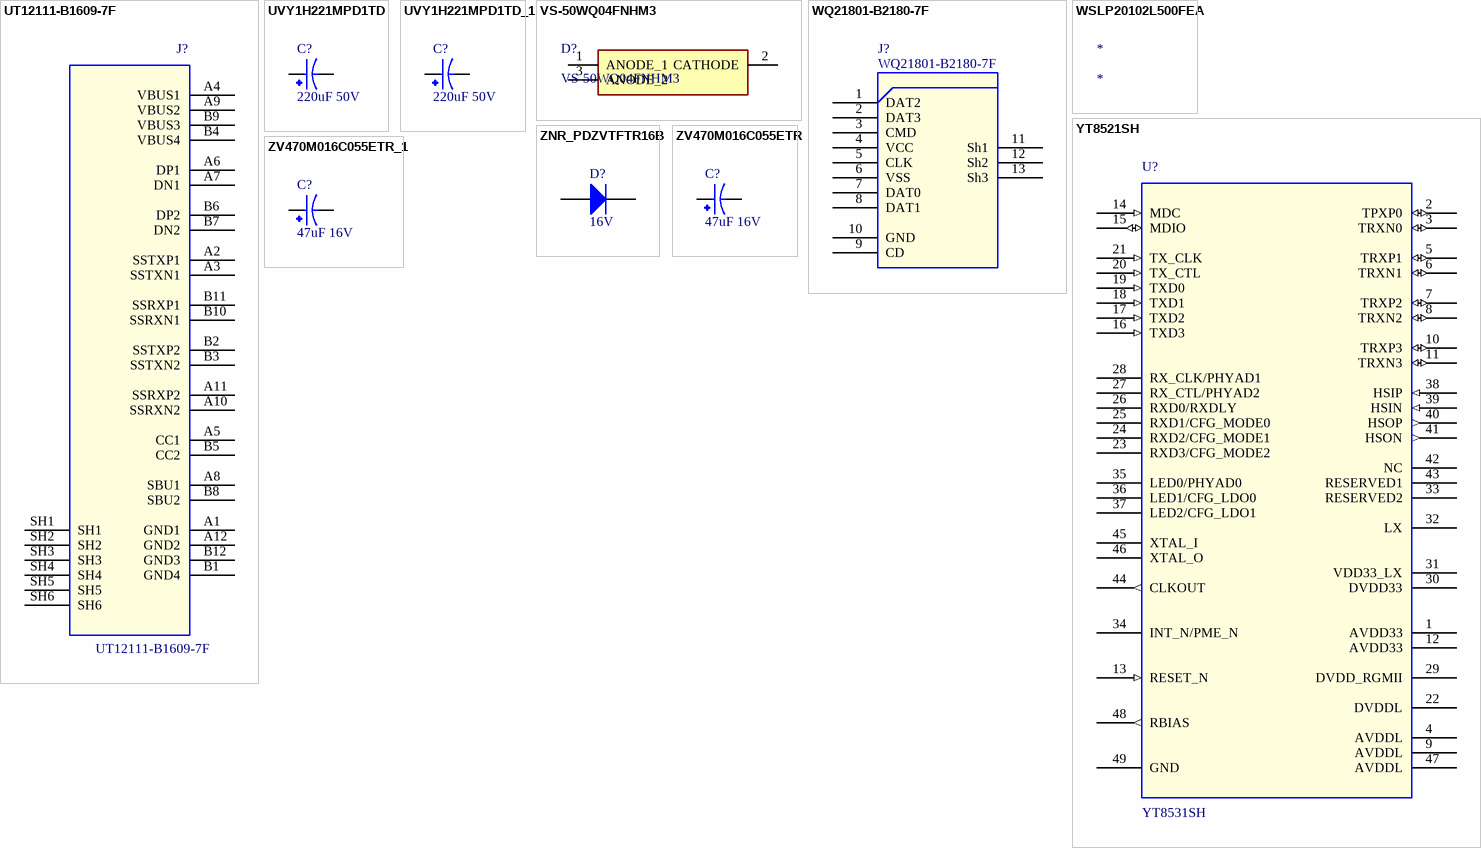
[diagram p19: symbols UT12111-B1609-7F to ZV470M016C055ETR_1]

## UT12111-B1609-7F
designator J?
Connector,USB C,24Pin,¨C25¡æ~£«85¡æ,SMT,Foxconn; CLASS: IO; Myir P/N: 21107.00017; Datasheet: USB_C_Foxconn_UT12111-B1609-7F_.pdf; Reserve Value: UT12111-B1609-7F; Manufacturer P/N: UT12111-B1609-7F; Manufacturer: Foxconn; Part Type: USB Connector; PCB Footprint: UT12111-B1609-7F
footprint UT12111-B1609-7F
pins: A1 GND1 (power), A2 SSTXP1, A3 SSTXN1, A4 VBUS1, A5 CC1, A6 DP1, A7 DN1, A8 SBU1, A9 VBUS2, A10 SSRXN2, A11 SSRXP2, A12 GND2 (power), B1 GND4 (power), B2 SSTXP2, B3 SSTXN2, B4 VBUS4, B5 CC2, B6 DP2, B7 DN2, B8 SBU2, B9 VBUS3, B10 SSRXN1, B11 SSRXP1, B12 GND3 (power), SH1 (power), SH2 (power), SH3 (power), SH4 (power), SH5 (power), SH6 (power)

## UVY1H221MPD1TD
designator C?  value 220uF 50V  (hidden comment: UVY1H221MPD1TD)
220 µF 50 V Aluminum Electrolytic Capacitors Radial, Can 2000 Hrs @ 105°C; Order Code: Digi: 493-12916-1-ND; Manufacturer Part Number: UVY1H221MPD1TD; LCSC Manufacturer Part Number: UVY1H221MPD1TD; LCSC Part Number: C340752
footprint CAP_RN_10X12P5_NCH
pins: 1, 2

## UVY1H221MPD1TD_1
designator C?, comment value 220uF 50V  (hidden comment: UVY1H221MPD1TD)
220 µF 50 V Aluminum Electrolytic Capacitors Radial, Can 2000 Hrs @ 105°C; Order Code: Digi: 493-12916-1-ND; Manufacturer Part Number: UVY1H221MPD1TD; LCSC Manufacturer Part Number: UVY1H221MPD1TD; LCSC Part Number: C340752
footprint CAP_RN_10X12P5_NCH
pins: 1, 2

## VS-50WQ04FNHM3
designator D?
Schottky Diode; Manufacturer_Name: Vishay; Datasheet Link: https://componentsearchengine.com/Datasheets/1/VS-50WQ04FNHM3.pdf; Height: 2.39mm; Manufacturer_Part_Number: VS-50WQ04FNHM3; Mouser Part Number: 78-VS-50WQ04FNHM3; Mouser Price/Stock: https://www.mouser.co.uk/ProductDetail/Vishay-Semiconductors/VS-50WQ04FNHM3?qs=asPD7ZL2j3Wg2S85juOYjQ%3D%3D; Arrow Part Number: VS-50WQ04FNHM3; Arrow Price/Stock: https://www.arrow.com/en/products/vs-50wq04fnhm3/vishay?region=nac
footprint VS50WQ04FNHM3
pins: 1 ANODE_1, 2 CATHODE, 3 ANODE_2

## WQ21801-B2180-7F
designator J?
Connector,Micro SD Card,8Pin,gold flash,Black,-25~85¡æ,SMT,Foxconn; Myir P/N: 21112.00009; Mark: 1; PCB Footprint: WQ21801-B2180-7F; Datasheet: SD_Foxconn_WQ21801-B2180-7F.pdf; Reserve Value: WQ21801-B2180-7F; Manufacturer P/N: WQ21801-B2180-7F; Manufacturer: Foxconn; Part Type: Card Connector
footprint WQ21801-B2180-7F
pins: 1 DAT2, 2 DAT3, 3 CMD, 4 VCC, 5 CLK, 6 VSS, 7 DAT0, 8 DAT1, 9 CD, 10 GND, 11 Sh1, 12 Sh2, 13 Sh3

## WSLP20102L500FEA
designator *
CURRENT SENSE, RESISTOR, WSLP2010.00251%EAe3 | Vishay Dale WSLP20102L500FEA; Supplier 1: Digikey; Manufacturer: Vishay Dale; Manufacturer Part Number: WSLP20102L500FEA; Category: Chip SMD Resistors; Stock 1: 33384; Pricing 1: 1=0.82, 10=0.65, 25=0.5872, 50=0.5284, 100=0.4364, 250=0.41096, 500=0.33268, 1000=0.26907 (USD); RoHS Compliant: Yes; Supplier Part Number 1: 541-WSLP20102L500FEACT-ND
footprint RESC5125X89N

## YT8521SH
designator U?, comment YT8531SH
IC,Ethernet Physical Layer Transceiver,10/100/1000M,-40¡æ~+85¡æ,SMD,QFN48,Motorcomm; Myir P/N: 20107.80039; PCB Footprint: QFN48-0_4; Part Type: Interface; Manufacturer: Motorcomm; Manufacturer P/N: YT8531SH; Reserve Value: YT8531SH; Datasheet: YT8531SH_YT8531SC_Datasheet_draft.pdf
footprint QFN48
footprint QFN48-0_4
pins: 1 AVDD33 (power), 2 TPXP0 (io), 3 TRXN0 (io), 4 AVDDL (power), 5 TRXP1 (io), 6 TRXN1 (io), 7 TRXP2 (io), 8 TRXN2 (io), 9 AVDDL (power), 10 TRXP3 (io), 11 TRXN3 (io), 12 AVDD33 (power), 13 RESET_N (in), 14 MDC (in), 15 MDIO (io), 16 TXD3 (in), 17 TXD2 (in), 18 TXD1 (in), 19 TXD0 (in), 20 TX_CTL (in), 21 TX_CLK (in), 22 DVDDL (power), 23 RXD3/CFG_MODE2, 24 RXD2/CFG_MODE1, 25 RXD1/CFG_MODE0, 26 RXD0/RXDLY, 27 RX_CTL/PHYAD2, 28 RX_CLK/PHYAD1, 29 DVDD_RGMII (power), 30 DVDD33 (power), 31 VDD33_LX (power), 32 LX, 33 RESERVED2, 34 INT_N/PME_N, 35 LED0/PHYAD0, 36 LED1/CFG_LDO0, 37 LED2/CFG_LDO1, 38 HSIP (in), 39 HSIN (in), 40 HSOP (out), 41 HSON (out), 42 NC, 43 RESERVED1 (power), 44 CLKOUT (out), 45 XTAL_I, 46 XTAL_O, 47 AVDDL (power), 48 RBIAS (out), 49 GND (power)

## ZNR_PDZVTFTR16B
designator D?, comment 16V
DIODE ZENER 16V 1W SOD128; Manufacturer Part Number: PDZVTFTR16B; Value: 16V 1W; Order Code: DIGI : PDZVTFTR16BCT-ND
footprint SOD128_PMEG10030ELPX
pins: 1 A, 2 K

## ZV470M016C055ETR
designator C?, comment value 47uF 16V  (hidden comment: 47uF 16V ±20% SMD,D5xL5.5mm Aluminum Electrolytic Capacitors - SMD ROHS)
Manufacturer Part Number: ZV470M016C055ETR; Order Code: LCSC: C84357; LCSC Manufacturer Part Number: ZV470M016C055ETR; LCSC Part Number: C84357
footprint CAP_16SVPG47M
pins: 1, 2

## ZV470M016C055ETR_1
designator C?, comment value 47uF 16V  (hidden comment: 47uF 16V ±20% SMD,D5xL5.5mm Aluminum Electrolytic Capacitors - SMD ROHS)
Manufacturer Part Number: ZV470M016C055ETR; Order Code: LCSC: C84357; LCSC Manufacturer Part Number: ZV470M016C055ETR; LCSC Part Number: C84357
footprint CAP_16SVPG47M
pins: 1, 2